# Altium schematic symbol library ICs-LEDDrivers.SchLib: 4 symbols
Pins are listed as number, name and electrical type; pins without a type are passive.

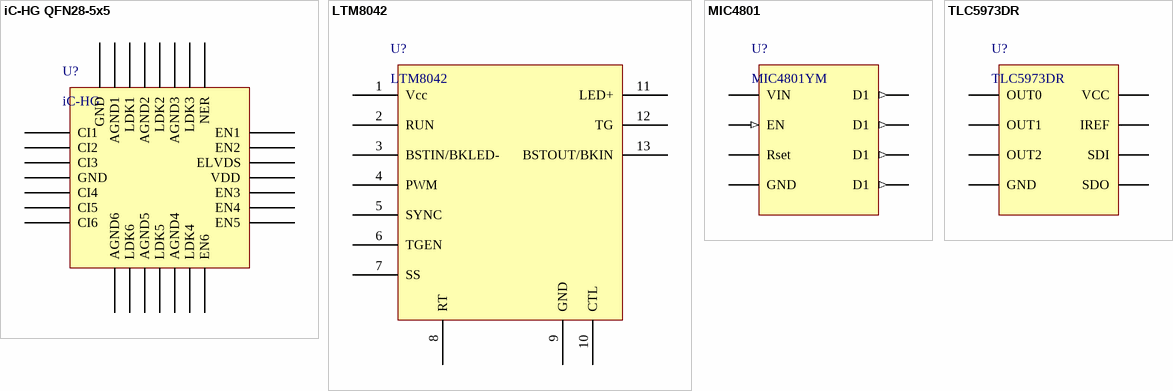
[diagram p0: symbols iC-HG QFN28-5x5 to TLC5973DR]

## iC-HG QFN28-5x5
designator U?, comment iC-HG
PartNumber: iC-HG QFN28-5x5; Manufacturer: iC-Haus; Mounting Technology: Surface Mount; PackageReference: QFN-28
footprint QFN-28 (QFN, 28-Leads, Body 5.00x5.00mm, Pitch 0.50mm, Thermal Pad 3.15x3.15mm, IPC Medium Density)
pins: 1 CI1, 2 CI2, 3 CI3, 4 GND, 5 CI4, 6 CI5, 7 CI6, 8 AGND6, 9 LDK6, 10 AGND5, 11 LDK5, 12 AGND4, 13 LDK4, 14 EN6, 15 EN5, 16 EN4, 17 EN3, 18 VDD, 19 ELVDS, 20 EN2, 21 EN1, 22 NER, 23 LDK3, 24 AGND3, 25 LDK2, 26 AGND2, 27 LDK1, 28 AGND1, 29 GND

## LTM8042
designator U?
Manufacturer: Linear Technology; PartNumber: LTM8042EV#PBF; Mounting Technology: Surface Mount; PackageReference: LGA
footprint LGA-77 (LGA, 77-Leads, Body 9.00x15.00mmx2.82mm, Pitch 1.27mm); pin to pad 1>A6+A7+B6+B7 2>F1 3>C5+C6+C7+D5+D6+D7 4>K1 5>G1 6>L3 7>J1 8>H1 9>A1+A2+A3+A4+A5+B1+B2+B3+B4+B5+C1+C2+C3+C4+D1+D2+D3+D4+E1+E2+E3+E4+E5+E6+E7+F2+F3+F4+F5+F6+F7+G2+G3+G4+H2+H3+H4+J2+J3+J4+K2+K3+K4+L1+L4 10>L2 11>K5+K6+K7+L5+L6+L7 12>J7 13>G5+G6+G7+H5+H6+H7+J5+J6
pins: 1 Vcc, 2 RUN, 3 BSTIN/BKLED-, 4 PWM, 5 SYNC, 6 TGEN, 7 SS, 8 RT, 9 GND, 10 CTL, 11 LED+, 12 TG, 13 BSTOUT/BKIN

## MIC4801
designator U?, comment MIC4801YM
600mA Single Channel WLED Driver w/ Ultrafast PWM Control; Manufacturer: Microchips; PartNumber: MIC4801YM; Mounting Technology: Surface Mount; PackageReference: SOIC-8
footprint SOIC-8 (SOIC, 8-Leads, Body 4.90x3.90mm, Pitch 1.27mm, IPC Medium Density)
pins: 1 VIN (power), 2 EN (in), 3 Rset, 4 GND (power), 5 D1 (out), 6 D1 (out), 7 D1 (out), 8 D1 (out)

## TLC5973DR
designator U?
LED Lighting Drivers 3Ch 12B PWM Constant Crnt LED Dvr; Manufacturer: Texas Instruments; PartNumber: TLC5973DR; Mounting Technology: Surface Mount; PackageReference: SOIC-8
footprint SOIC-8 (SOIC, 8-Leads, Body 4.90x3.90mm, Pitch 1.27mm, IPC Medium Density)
pins: 1 OUT0, 2 OUT1, 3 OUT2, 4 GND (power), 5 SDO, 6 SDI, 7 IREF, 8 VCC (power)